# EAGLE library part LED_RGBW_CONF2 (library lolomolo)
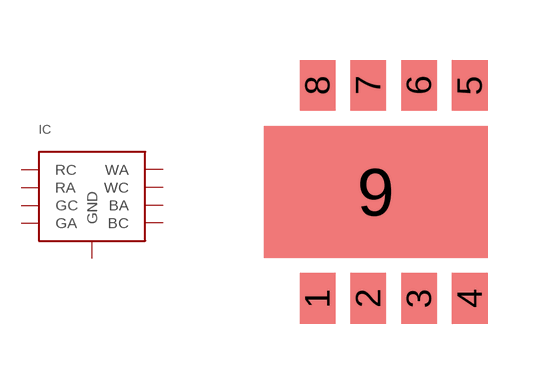
[diagram p16: symbol with the pads of LED_RGBW_CUSTOM; footprint LED_RGBW_CUSTOM]

Designator prefix IC

## LED_RGBW_CONF2  [LED_RGBW_CUSTOM]
1  RC
2  RA
3  GC
4  GA
5  BC
6  BA
7  WC
8  WA
9  GND

## Footprint LED_RGBW_CUSTOM (pad centres in mm)
smd 0.889 x 1.27: 1 0,-0.254; 2 1.27,-0.254; 3 2.54,-0.254; 4 3.81,-0.254; 5 3.81,5.08; 6 2.54,5.08; 7 1.27,5.08; 8 0,5.08
smd 5.588 x 3.302: 9 1.46,2.413